# EAGLE library part TP4056 (library TP4056)
1A Standalone Linear Li-lon Battery Charger, SOP-8 Source: Datasheet <https://dlnmh9ip6v2uc.cloudfront.net/datasheets/Prototyping/TP4056.pdf>
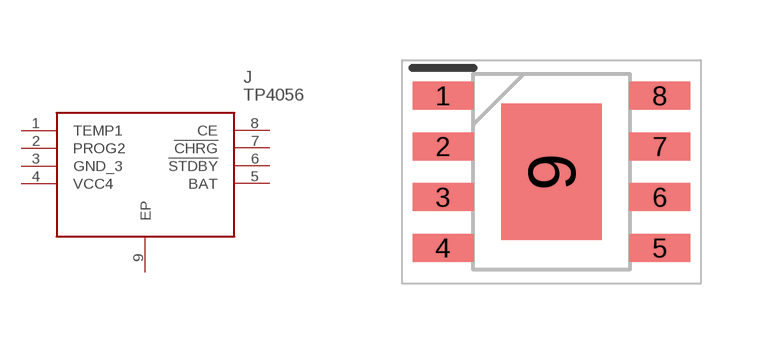
[diagram p0: symbol with the pads of SOIC127P600X175-9N; footprint SOIC127P600X175-9N]

Designator prefix J

## TP4056 (Description: 1A Standalone Linear Li-lon Battery Charger, SOP-8; Height: 1.75mm; Manufacturer_Name: NanJing Top Power; Manufacturer_Part_Number: TP4056)  [SOIC127P600X175-9N]
1  TEMP1
2  PROG2
3  GND_3
4  VCC4
5  BAT
6  !STDBY
7  !CHRG
8  CE
9  EP

## Footprint SOIC127P600X175-9N (pad centres in mm)
SOP-8
smd 1.525 x 0.7: 1 -2.712,1.905; 2 -2.712,0.635; 3 -2.712,-0.635; 4 -2.712,-1.905; 5 2.712,-1.905; 6 2.712,-0.635; 7 2.712,0.635; 8 2.712,1.905
smd 2.513 x 3.402: 9 0,0